# EAGLE library part JST-ZH6 (library precharge)
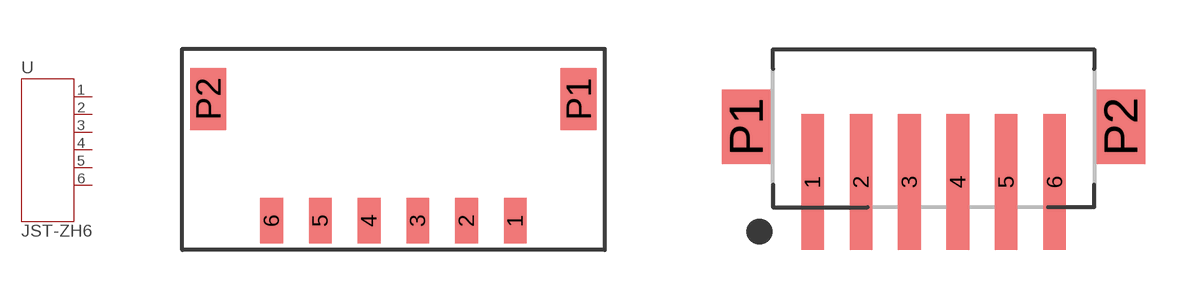
[diagram p2: symbol with the pads of JST_S6B-ZR-SM4A-TF(LF)(SN); footprints JST_S6B-ZR-SM4A-TF(LF)(SN), JST_B6B-ZR-SM4-TF(LF)(SN)]

Designator prefix -

## JST-ZH6  [JST_S6B-ZR-SM4A-TF(LF)(SN)]
1  1  pas
2  2  pas
3  3  pas
4  4  pas
5  5  pas
6  6  pas

## JST-ZH6SMT_VERT  [JST_B6B-ZR-SM4-TF(LF)(SN)]
Pads as for JST_S6B-ZR-SM4A-TF(LF)(SN)

## Footprint JST_S6B-ZR-SM4A-TF(LF)(SN) (pad centres in mm)
smd 0.7 x 1.4: 1 3.75,0; 2 2.25,0; 3 0.75,0; 4 -0.75,0; 5 -2.25,0; 6 -3.75,0
smd 1.1 x 1.9: P1 5.7,3.75; P2 -5.7,3.75

## Footprint JST_B6B-ZR-SM4-TF(LF)(SN) (pad centres in mm)
smd 0.7 x 4.2: 1 -3.75,-2; 2 -2.25,-2; 3 -0.75,-2; 4 0.75,-2; 5 2.25,-2; 6 3.75,-2
smd 1.5 x 2.3: P1 -5.8,-0.29; P2 5.8,-0.29